# EAGLE library part BMC150 (library bosch)
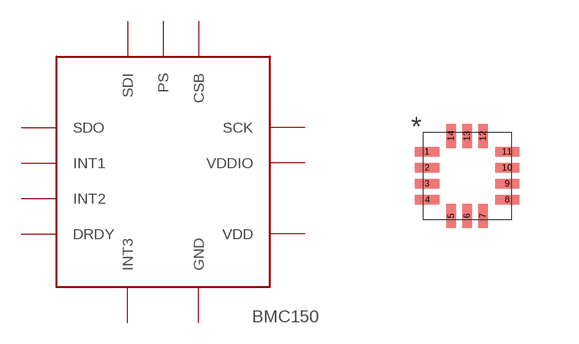
[diagram p0: symbol with the pads of LGA14_2,2X2,2; footprint LGA14_2,2X2,2]

Designator prefix -

## BMC150  [LGA14_2,2X2,2]
1  SDO
2  INT1
3  INT2
4  DRDY
5  INT3
6  GND
7  GND
8  VDD
9  GND
10  VDDIO
11  SCK
12  CSB
13  PS
14  SDI

## Footprint LGA14_2,2X2,2 (pad centres in mm)
smd 0.6 x 0.23: 1 -1,0.6; 2 -1,0.2; 3 -1,-0.2; 4 -1,-0.6; 8 1,-0.6; 9 1,-0.2; 10 1,0.2; 11 1,0.6
smd 0.23 x 0.6: 5 -0.4,-1; 6 0,-1; 7 0.4,-1; 12 0.4,1; 13 0,1; 14 -0.4,1